# Altium footprint library SparkFun-Connectors.PCBLIB: 386 footprints (part 13 of 25)
Each footprint in its own frame and in the unit in brackets; x right, y up, seen from the top. Pads: shape width x height; smd on the part's side, far side on the other; paste and mask are expansions set on the pad; w line width, h text height; cw(c..) or ccw(c..) is an arc to the next point about the centre after c.
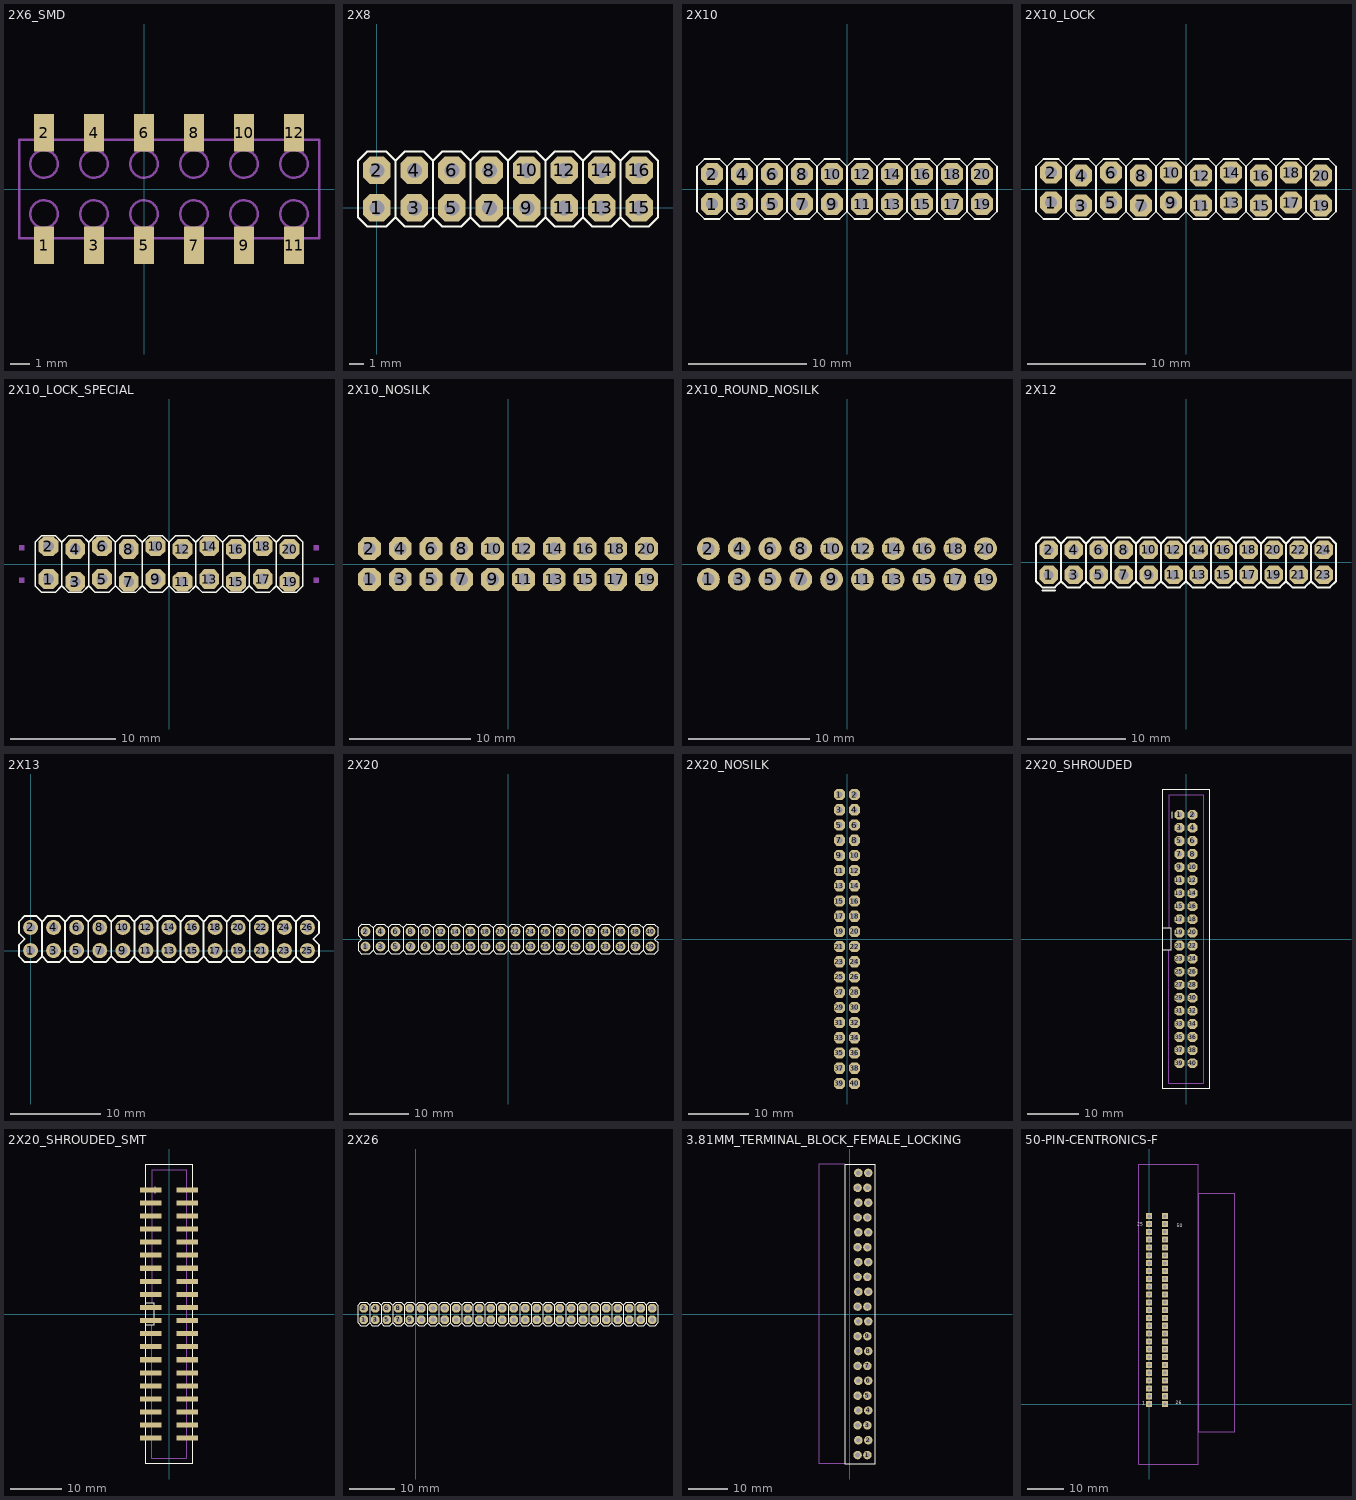
[diagram p12: the footprints below, top view; thin cyan lines are the x and y axes]

## 2X6_SMD [mil]
pads (12):
  rect 40.16x74.8 smd: 1(-200,-112.2) 2(-200,112.2) 3(-100,-112.2) 4(-100,112.2) 5(0,-112.2) 6(0,112.2) 7(100,-112.2) 8(100,112.2) 9(200,-112.2) 10(200,112.2) 11(300,-112.2) 12(300,112.2)
Mechanical 16:
  circle w5: c-100,50 r27.56
  circle w5: c-200,50 r27.56
  circle w5: c-200,-50 r27.56
  circle w5: c-100,-50 r27.56
  circle w5: c0,-50 r27.56
  circle w5: c0,50 r27.56
  circle w5: c100,-50 r27.56
  circle w5: c100,50 r27.56
  circle w5: c200,-50 r27.56
  circle w5: c200,50 r27.56
  circle w5: c300,-50 r27.56
  circle w5: c300,50 r27.56
  rectangle: -111.81,100.39 -88.19,131.89
  rectangle: -211.81,100.39 -188.19,131.89
  rectangle: -11.81,100.39 11.81,131.89
  region: -188.19,-100.39 -211.81,-100.39 -211.81,-131.89 -188.19,-131.89
  region: -88.19,-100.39 -111.81,-100.39 -111.81,-131.89 -88.19,-131.89
  region: 11.81,-100.39 -11.81,-100.39 -11.81,-131.89 11.81,-131.89
  rectangle: 88.19,100.39 111.81,131.89
  region: 111.81,-100.39 88.19,-100.39 88.19,-131.89 111.81,-131.89
  rectangle: 188.19,100.39 211.81,131.89
  region: 211.81,-100.39 188.19,-100.39 188.19,-131.89 211.81,-131.89
  rectangle: 288.19,100.39 311.81,131.89
  region: 311.81,-100.39 288.19,-100.39 288.19,-131.89 311.81,-131.89
  lines w5: -250,-98.43 -250,98.43 350,98.43 350,-98.43 -250,-98.43

## 2X8 [mil]
pads (16):
  oct 74x74 hole 40: 1(0,0) 2(0,100) 3(100,0) 4(100,100) 5(200,0) 6(200,100) 7(300,0) 8(300,100) 9(400,0) 10(400,100) 11(500,0) 12(500,100) 13(600,0) 14(600,100) 15(700,0) 16(700,100)
Top Overlay:
  lines w6: 50,-25 25,-50 -25,-50 -50,-25 -50,125 -25,150 25,150 50,125 ; 50,-25 75,-50 125,-50 150,-25 ; 50,-25 50,125 ; 50,125 75,150 125,150 150,125 ; 150,-25 175,-50 225,-50 250,-25 ; 150,-25 150,125 ; 150,125 175,150 225,150 250,125 ; 250,-25 275,-50 325,-50 350,-25 ; 250,-25 250,125 ; 250,125 275,150 325,150 350,125 ; 350,-25 375,-50 425,-50 450,-25 ; 350,-25 350,125 ; 350,125 375,150 425,150 450,125 ; 450,-25 475,-50 525,-50 550,-25 ; 450,-25 450,125 ; 450,125 475,150 525,150 550,125 ; 550,-25 575,-50 625,-50 650,-25 ; 550,-25 550,125 ; 550,125 575,150 625,150 650,125 ; 650,-25 675,-50 725,-50 750,-25 750,125 725,150 675,150 650,125 ; 650,-25 650,125
Mechanical 16:
  rectangle: -10,-10 10,10
  rectangle: -10,90 10,110
  rectangle: 90,90 110,110
  rectangle: 90,-10 110,10
  rectangle: 190,90 210,110
  rectangle: 190,-10 210,10
  rectangle: 290,90 310,110
  rectangle: 390,90 410,110
  rectangle: 490,90 510,110
  rectangle: 290,-10 310,10
  rectangle: 390,-10 410,10
  rectangle: 490,-10 510,10
  rectangle: 590,90 610,110
  rectangle: 590,-10 610,10
  rectangle: 690,90 710,110
  rectangle: 690,-10 710,10

## 2X10 [mil]
pads (20):
  oct 74x74 hole 40: 1(-450,-50) 2(-450,50) 3(-350,-50) 4(-350,50) 5(-250,-50) 6(-250,50) 7(-150,-50) 8(-150,50) 9(-50,-50) 10(-50,50) 11(50,-50) 12(50,50) 13(150,-50) 14(150,50) 15(250,-50) 16(250,50) 17(350,-50) 18(350,50) 19(450,-50) 20(450,50)
Top Overlay:
  lines w6: -400,-75 -425,-100 -475,-100 -500,-75 -500,75 -475,100 -425,100 -400,75 ; -400,-75 -375,-100 -325,-100 -300,-75 ; -400,-75 -400,75 ; -400,75 -375,100 -325,100 -300,75 ; -300,-75 -275,-100 -225,-100 -200,-75 ; -300,-75 -300,75 ; -300,75 -275,100 -225,100 -200,75 ; -200,-75 -175,-100 -125,-100 -100,-75 ; -200,-75 -200,75 ; -200,75 -175,100 -125,100 -100,75 ; -100,-75 -75,-100 -25,-100 0,-75 ; -100,-75 -100,75 ; -100,75 -75,100 -25,100 0,75 ; 0,-75 25,-100 75,-100 100,-75 ; 0,-75 0,75 ; 0,75 25,100 75,100 100,75 ; 100,-75 125,-100 175,-100 200,-75 ; 100,-75 100,75 ; 100,75 125,100 175,100 200,75 ; 200,-75 225,-100 275,-100 300,-75 ; 200,-75 200,75 ; 200,75 225,100 275,100 300,75 ; 300,-75 325,-100 375,-100 400,-75 ; 300,-75 300,75 ; 300,75 325,100 375,100 400,75 ; 400,-75 400,75 ; 400,-75 425,-100 475,-100 500,-75 500,75 475,100 425,100 400,75
Mechanical 16:
  rectangle: -460,-60 -440,-40
  rectangle: -460,40 -440,60
  rectangle: -360,40 -340,60
  rectangle: -360,-60 -340,-40
  rectangle: -260,40 -240,60
  rectangle: -260,-60 -240,-40
  rectangle: -160,40 -140,60
  rectangle: -60,40 -40,60
  rectangle: 40,40 60,60
  rectangle: -160,-60 -140,-40
  rectangle: -60,-60 -40,-40
  rectangle: 40,-60 60,-40
  rectangle: 140,40 160,60
  rectangle: 140,-60 160,-40
  rectangle: 240,40 260,60
  rectangle: 240,-60 260,-40
  rectangle: 340,40 360,60
  rectangle: 340,-60 360,-40
  rectangle: 440,40 460,60
  rectangle: 440,-60 460,-40

## 2X10_LOCK [mil]
pads (20):
  oct 74x74 hole 40: 1(-450,-45) 2(-450,55) 3(-350,-55) 4(-350,45) 5(-250,-45) 6(-250,55) 7(-150,-55) 8(-150,45) 9(-50,-45) 10(-50,55) 11(50,-55) 12(50,45) 13(150,-45) 14(150,55) 15(250,-55) 16(250,45) 17(350,-45) 18(350,55) 19(450,-55) 20(450,45)
Top Overlay:
  lines w6: -400,-75 -425,-100 -475,-100 -500,-75 -500,75 -475,100 -425,100 -400,75 ; -400,-75 -375,-100 -325,-100 -300,-75 ; -400,-75 -400,75 ; -400,75 -375,100 -325,100 -300,75 ; -300,-75 -275,-100 -225,-100 -200,-75 ; -300,-75 -300,75 ; -300,75 -275,100 -225,100 -200,75 ; -200,-75 -175,-100 -125,-100 -100,-75 ; -200,-75 -200,75 ; -200,75 -175,100 -125,100 -100,75 ; -100,-75 -75,-100 -25,-100 0,-75 ; -100,-75 -100,75 ; -100,75 -75,100 -25,100 0,75 ; 0,-75 25,-100 75,-100 100,-75 ; 0,-75 0,75 ; 0,75 25,100 75,100 100,75 ; 100,-75 125,-100 175,-100 200,-75 ; 100,-75 100,75 ; 100,75 125,100 175,100 200,75 ; 200,-75 225,-100 275,-100 300,-75 ; 200,-75 200,75 ; 200,75 225,100 275,100 300,75 ; 300,-75 325,-100 375,-100 400,-75 ; 300,-75 300,75 ; 300,75 325,100 375,100 400,75 ; 400,-75 400,75 ; 400,-75 425,-100 475,-100 500,-75 500,75 475,100 425,100 400,75
Mechanical 16:
  rectangle: -460,-60 -440,-40
  rectangle: -460,40 -440,60
  rectangle: -360,40 -340,60
  rectangle: -360,-60 -340,-40
  rectangle: -260,40 -240,60
  rectangle: -260,-60 -240,-40
  rectangle: -160,40 -140,60
  rectangle: -60,40 -40,60
  rectangle: 40,40 60,60
  rectangle: -160,-60 -140,-40
  rectangle: -60,-60 -40,-40
  rectangle: 40,-60 60,-40
  rectangle: 140,40 160,60
  rectangle: 140,-60 160,-40
  rectangle: 240,40 260,60
  rectangle: 240,-60 260,-40
  rectangle: 340,40 360,60
  rectangle: 340,-60 360,-40
  rectangle: 440,40 460,60
  rectangle: 440,-60 460,-40

## 2X10_LOCK_SPECIAL [mil]
pads (20):
  oct 74x74 hole 40: 1(-450,-56) 2(-450,66) 3(-350,-66) 4(-350,56) 5(-250,-56) 6(-250,66) 7(-150,-66) 8(-150,56) 9(-50,-56) 10(-50,66) 11(50,-66) 12(50,56) 13(150,-56) 14(150,66) 15(250,-66) 16(250,56) 17(350,-56) 18(350,66) 19(450,-66) 20(450,56)
Top Overlay:
  lines w6: -400,-81 -425,-106 -475,-106 -500,-81 -500,81 -475,106 -425,106 -400,81 ; -400,-81 -375,-106 -325,-106 -300,-81 ; -400,-81 -400,81 ; -400,81 -375,106 -325,106 -300,81 ; -300,-81 -275,-106 -225,-106 -200,-81 ; -300,-81 -300,81 ; -300,81 -275,106 -225,106 -200,81 ; -200,-81 -175,-106 -125,-106 -100,-81 ; -200,-81 -200,81 ; -200,81 -175,106 -125,106 -100,81 ; -100,-81 -75,-106 -25,-106 0,-81 ; -100,-81 -100,81 ; -100,81 -75,106 -25,106 0,81 ; 0,-81 25,-106 75,-106 100,-81 ; 0,-81 0,81 ; 0,81 25,106 75,106 100,81 ; 100,-81 125,-106 175,-106 200,-81 ; 100,-81 100,81 ; 100,81 125,106 175,106 200,81 ; 200,-81 225,-106 275,-106 300,-81 ; 200,-81 200,81 ; 200,81 225,106 275,106 300,81 ; 300,-81 325,-106 375,-106 400,-81 ; 300,-81 300,81 ; 300,81 325,106 375,106 400,81 ; 400,-81 400,81 ; 400,-81 425,-106 475,-106 500,-81 500,81 475,106 425,106 400,81
Mechanical 16:
  rectangle: -460,-71 -440,-51
  rectangle: -460,51 -440,71
  rectangle: -360,51 -340,71
  rectangle: -360,-71 -340,-51
  rectangle: -260,51 -240,71
  rectangle: -260,-71 -240,-51
  rectangle: -160,51 -140,71
  rectangle: -60,51 -40,71
  rectangle: 40,51 60,71
  rectangle: -160,-71 -140,-51
  rectangle: -60,-71 -40,-51
  rectangle: 40,-71 60,-51
  rectangle: 140,51 160,71
  rectangle: 140,-71 160,-51
  rectangle: 240,51 260,71
  rectangle: 240,-71 260,-51
  rectangle: 340,51 360,71
  rectangle: 340,-71 360,-51
  rectangle: 440,51 460,71
  rectangle: 440,-71 460,-51
  rectangle: -560,51 -540,71
  rectangle: -560,-71 -540,-51
  rectangle: 540,51 560,71
  rectangle: 540,-71 560,-51

## 2X10_NOSILK [mil]
pads (20):
  oct 74x74 hole 40: 1(-450,-50) 2(-450,50) 3(-350,-50) 4(-350,50) 5(-250,-50) 6(-250,50) 7(-150,-50) 8(-150,50) 9(-50,-50) 10(-50,50) 11(50,-50) 12(50,50) 13(150,-50) 14(150,50) 15(250,-50) 16(250,50) 17(350,-50) 18(350,50) 19(450,-50) 20(450,50)
Mechanical 16:
  rectangle: -460,-60 -440,-40
  rectangle: -460,40 -440,60
  rectangle: -360,40 -340,60
  rectangle: -360,-60 -340,-40
  rectangle: -260,40 -240,60
  rectangle: -260,-60 -240,-40
  rectangle: -160,40 -140,60
  rectangle: -60,40 -40,60
  rectangle: 40,40 60,60
  rectangle: -160,-60 -140,-40
  rectangle: -60,-60 -40,-40
  rectangle: 40,-60 60,-40
  rectangle: 140,40 160,60
  rectangle: 140,-60 160,-40
  rectangle: 240,40 260,60
  rectangle: 240,-60 260,-40
  rectangle: 340,40 360,60
  rectangle: 340,-60 360,-40
  rectangle: 440,40 460,60
  rectangle: 440,-60 460,-40

## 2X10_ROUND_NOSILK [mil]
pads (20):
  round 74 hole 40: 1(-450,-50) 2(-450,50) 3(-350,-50) 4(-350,50) 5(-250,-50) 6(-250,50) 7(-150,-50) 8(-150,50) 9(-50,-50) 10(-50,50) 11(50,-50) 12(50,50) 13(150,-50) 14(150,50) 15(250,-50) 16(250,50) 17(350,-50) 18(350,50) 19(450,-50) 20(450,50)
Mechanical 16:
  rectangle: -460,-60 -440,-40
  rectangle: -460,40 -440,60
  rectangle: -360,40 -340,60
  rectangle: -360,-60 -340,-40
  rectangle: -260,40 -240,60
  rectangle: -260,-60 -240,-40
  rectangle: -160,40 -140,60
  rectangle: -60,40 -40,60
  rectangle: 40,40 60,60
  rectangle: -160,-60 -140,-40
  rectangle: -60,-60 -40,-40
  rectangle: 40,-60 60,-40
  rectangle: 140,40 160,60
  rectangle: 140,-60 160,-40
  rectangle: 240,40 260,60
  rectangle: 240,-60 260,-40
  rectangle: 340,40 360,60
  rectangle: 340,-60 360,-40
  rectangle: 440,40 460,60
  rectangle: 440,-60 460,-40

## 2X12 [mil]
pads (24):
  oct 74x74 hole 40: 1(-550,-50) 2(-550,50) 3(-450,-50) 4(-450,50) 5(-350,-50) 6(-350,50) 7(-250,-50) 8(-250,50) 9(-150,-50) 10(-150,50) 11(-50,-50) 12(-50,50) 13(50,-50) 14(50,50) 15(150,-50) 16(150,50) 17(250,-50) 18(250,50) 19(350,-50) 20(350,50) 21(450,-50) 22(450,50) 23(550,-50) 24(550,50)
Top Overlay:
  lines w8: -575,-113.19 -525,-113.19 ; -500,-75 -525,-100 -575,-100 -600,-75 -600,75 -575,100 -525,100 -500,75 ; -500,-75 -475,-100 -425,-100 -400,-75 ; -500,-75 -500,75 ; -500,75 -475,100 -425,100 -400,75 ; -400,-75 -375,-100 -325,-100 -300,-75 ; -400,-75 -400,75 ; -400,75 -375,100 -325,100 -300,75 ; -300,-75 -300,75 ; -300,-75 -275,-100 -225,-100 -200,-75 ; -300,-75 -300,75 ; -300,75 -275,100 -225,100 -200,75 ; -200,-75 -175,-100 -125,-100 -100,-75 ; -200,-75 -200,75 ; -200,75 -175,100 -125,100 -100,75 ; -100,-75 -75,-100 -25,-100 0,-75 ; -100,-75 -100,75 ; -100,75 -75,100 -25,100 0,75 ; 0,-75 0,75 ; 0,-75 25,-100 75,-100 100,-75 ; 0,-75 0,75 ; 0,75 25,100 75,100 100,75 ; 100,-75 125,-100 175,-100 200,-75 ; 100,-75 100,75 ; 100,75 125,100 175,100 200,75 ; 200,-75 225,-100 275,-100 300,-75 ; 200,-75 200,75 ; 200,75 225,100 275,100 300,75 ; 300,-75 300,75 ; 300,-75 325,-100 375,-100 400,-75 ; 300,-75 300,75 ; 300,75 325,100 375,100 400,75 ; 400,-75 425,-100 475,-100 500,-75 ; 400,-75 400,75 ; 400,75 425,100 475,100 500,75 ; 500,-75 525,-100 575,-100 600,-75 600,75 575,100 525,100 500,75 ; 500,-75 500,75
Mechanical 16:
  rectangle: -560,-60 -540,-40
  rectangle: -560,40 -540,60
  rectangle: -460,40 -440,60
  rectangle: -460,-60 -440,-40
  rectangle: -360,40 -340,60
  rectangle: -360,-60 -340,-40
  rectangle: -260,-60 -240,-40
  rectangle: -260,40 -240,60
  rectangle: -160,40 -140,60
  rectangle: -160,-60 -140,-40
  rectangle: -60,40 -40,60
  rectangle: -60,-60 -40,-40
  rectangle: 40,-60 60,-40
  rectangle: 40,40 60,60
  rectangle: 140,40 160,60
  rectangle: 140,-60 160,-40
  rectangle: 240,40 260,60
  rectangle: 240,-60 260,-40
  rectangle: 340,-60 360,-40
  rectangle: 340,40 360,60
  rectangle: 440,40 460,60
  rectangle: 440,-60 460,-40
  rectangle: 540,40 560,60
  rectangle: 540,-60 560,-40

## 2X13 [mil]
pads (26):
  round 65 hole 40: 1(0,0) 2(0,100) 3(100,0) 4(100,100) 5(200,0) 6(200,100) 7(300,0) 8(300,100) 9(400,0) 10(400,100) 11(500,0) 12(500,100) 13(600,0) 14(600,100) 15(700,0) 16(700,100) 17(800,0) 18(800,100) 19(900,0) 20(900,100) 21(1000,0) 22(1000,100) 23(1100,0) 24(1100,100) 25(1200,0) 26(1200,100)
Top Overlay:
  lines w8: 50,-25 25,-50 -25,-50 -50,-25 -50,25 -25,50 -50,75 -50,125 -25,150 25,150 50,125 ; 50,-25 75,-50 125,-50 150,-25 ; 50,-25 50,125 ; 50,125 75,150 125,150 150,125 ; 150,-25 175,-50 225,-50 250,-25 ; 150,-25 150,125 ; 150,125 175,150 225,150 250,125 ; 250,-25 275,-50 325,-50 350,-25 ; 250,-25 250,125 ; 250,125 275,150 325,150 350,125 ; 350,-25 375,-50 425,-50 450,-25 ; 350,-25 350,125 ; 350,125 375,150 425,150 450,125 ; 450,-25 475,-50 525,-50 550,-25 ; 450,-25 450,125 ; 450,125 475,150 525,150 550,125 ; 550,-25 575,-50 625,-50 650,-25 ; 550,-25 550,125 ; 550,125 575,150 625,150 650,125 ; 650,-25 675,-50 725,-50 750,-25 ; 650,-25 650,125 ; 650,125 675,150 725,150 750,125 ; 750,-25 775,-50 825,-50 850,-25 ; 750,-25 750,125 ; 750,125 775,150 825,150 850,125 ; 850,-25 875,-50 925,-50 950,-25 ; 850,-25 850,125 ; 850,125 875,150 925,150 950,125 ; 950,-25 975,-50 1025,-50 1050,-25 ; 950,-25 950,125 ; 950,125 975,150 1025,150 1050,125 ; 1050,-25 1075,-50 1125,-50 1150,-25 ; 1050,-25 1050,125 ; 1050,125 1075,150 1125,150 1150,125 ; 1150,-25 1175,-50 1225,-50 1250,-25 1250,25 1225,50 1250,75 1250,125 1225,150 1175,150 1150,125 ; 1150,-25 1150,125
Mechanical 16:
  rectangle: 590,-10 610,10
  rectangle: 490,-10 510,10
  rectangle: 390,-10 410,10
  rectangle: 290,-10 310,10
  rectangle: 190,-10 210,10
  rectangle: 90,-10 110,10
  rectangle: -10,-10 10,10
  rectangle: 1190,-10 1210,10
  rectangle: 1090,-10 1110,10
  rectangle: 990,-10 1010,10
  rectangle: 890,-10 910,10
  rectangle: 790,-10 810,10
  rectangle: 690,-10 710,10
  region: 610,110 590,110 590,90 610,90
  region: 710,110 690,110 690,90 710,90
  region: 810,110 790,110 790,90 810,90
  region: 910,110 890,110 890,90 910,90
  region: 1010,110 990,110 990,90 1010,90
  region: 1110,110 1090,110 1090,90 1110,90
  region: 1210,110 1190,110 1190,90 1210,90
  region: 10,110 -10,110 -10,90 10,90
  region: 110,110 90,110 90,90 110,90
  region: 210,110 190,110 190,90 210,90
  region: 310,110 290,110 290,90 310,90
  region: 410,110 390,110 390,90 410,90
  region: 510,110 490,110 490,90 510,90

## 2X20 [mil]
pads (40):
  round 65 hole 40: 1(-950,-50) 2(-950,50) 3(-850,-50) 4(-850,50) 5(-750,-50) 6(-750,50) 7(-650,-50) 8(-650,50) 9(-550,-50) 10(-550,50) 11(-450,-50) 12(-450,50) 13(-350,-50) 14(-350,50) 15(-250,-50) 16(-250,50) 17(-150,-50) 18(-150,50) 19(-50,-50) 20(-50,50) 21(50,-50) 22(50,50) 23(150,-50) 24(150,50) 25(250,-50) 26(250,50) 27(350,-50) 28(350,50) 29(450,-50) 30(450,50) 31(550,-50) 32(550,50) 33(650,-50) 34(650,50) 35(750,-50) 36(750,50) 37(850,-50) 38(850,50) 39(950,-50) 40(950,50)
Top Overlay:
  lines w8: -900,-75 -925,-100 -975,-100 -1000,-75 -1000,-25 -975,0 -1000,25 -1000,75 -975,100 -925,100 -900,75 ; -900,-75 -875,-100 -825,-100 -800,-75 ; -900,-75 -900,75 ; -900,75 -875,100 -825,100 -800,75 ; -800,-75 -775,-100 -725,-100 -700,-75 ; -800,-75 -800,75 ; -800,75 -775,100 -725,100 -700,75 ; -700,-75 -675,-100 -625,-100 -600,-75 ; -700,-75 -700,75 ; -700,75 -675,100 -625,100 -600,75 ; -600,-75 -575,-100 -525,-100 -500,-75 ; -600,-75 -600,75 ; -600,75 -575,100 -525,100 -500,75 ; -500,-75 -475,-100 -425,-100 -400,-75 ; -500,-75 -500,75 ; -500,75 -475,100 -425,100 -400,75 ; -400,-75 -375,-100 -325,-100 -300,-75 ; -400,-75 -400,75 ; -400,75 -375,100 -325,100 -300,75 ; -300,-75 -275,-100 -225,-100 -200,-75 ; -300,-75 -300,75 ; -300,75 -275,100 -225,100 -200,75 ; -200,-75 -175,-100 -125,-100 -100,-75 ; -200,-75 -200,75 ; -200,75 -175,100 -125,100 -100,75 ; -100,-75 -75,-100 -25,-100 0,-75 ; -100,-75 -100,75 ; -100,75 -75,100 -25,100 0,75 ; 0,-75 25,-100 75,-100 100,-75 ; 0,-75 0,75 ; 0,75 25,100 75,100 100,75 ; 100,-75 125,-100 175,-100 200,-75 ; 100,-75 100,75 ; 100,75 125,100 175,100 200,75 ; 200,-75 225,-100 275,-100 300,-75 ; 200,-75 200,75 ; 200,75 225,100 275,100 300,75 ; 300,-75 300,75 ; 300,-75 325,-100 375,-100 400,-75 ; 300,75 325,100 375,100 400,75 ; 400,-75 400,75 ; 400,-75 425,-100 475,-100 500,-75 ; 400,75 425,100 475,100 500,75 ; 500,-75 500,75 ; 500,-75 525,-100 575,-100 600,-75 ; 500,75 525,100 575,100 600,75 ; 600,-75 600,75 ; 600,-75 625,-100 675,-100 700,-75 ; 600,75 625,100 675,100 700,75 ; 700,-75 700,75 ; 700,-75 725,-100 775,-100 800,-75 ; 700,75 725,100 775,100 800,75 ; 800,-75 800,75 ; 800,-75 825,-100 875,-100 900,-75 ; 800,75 825,100 875,100 900,75 ; 900,-75 900,75 ; 900,-75 925,-100 975,-100 1000,-75 1000,-25 975,0 1000,25 1000,75 975,100 925,100 900,75
Mechanical 16:
  rectangle: -360,-60 -340,-40
  rectangle: -460,-60 -440,-40
  rectangle: -560,-60 -540,-40
  rectangle: -660,-60 -640,-40
  rectangle: -760,-60 -740,-40
  rectangle: -860,-60 -840,-40
  rectangle: -960,-60 -940,-40
  rectangle: 240,-60 260,-40
  rectangle: 140,-60 160,-40
  rectangle: 40,-60 60,-40
  rectangle: -60,-60 -40,-40
  rectangle: -160,-60 -140,-40
  rectangle: -260,-60 -240,-40
  region: -340,60 -360,60 -360,40 -340,40
  region: -240,60 -260,60 -260,40 -240,40
  region: -140,60 -160,60 -160,40 -140,40
  region: -40,60 -60,60 -60,40 -40,40
  region: 60,60 40,60 40,40 60,40
  region: 160,60 140,60 140,40 160,40
  region: 260,60 240,60 240,40 260,40
  region: -940,60 -960,60 -960,40 -940,40
  region: -840,60 -860,60 -860,40 -840,40
  region: -740,60 -760,60 -760,40 -740,40
  region: -640,60 -660,60 -660,40 -640,40
  region: -540,60 -560,60 -560,40 -540,40
  region: -440,60 -460,60 -460,40 -440,40
  region: 360,60 340,60 340,40 360,40
  region: 460,60 440,60 440,40 460,40
  region: 560,60 540,60 540,40 560,40
  region: 660,60 640,60 640,40 660,40
  region: 760,60 740,60 740,40 760,40
  region: 860,60 840,60 840,40 860,40
  region: 960,60 940,60 940,40 960,40
  region: 360,-40 340,-40 340,-60 360,-60
  region: 460,-40 440,-40 440,-60 460,-60
  region: 560,-40 540,-40 540,-60 560,-60
  region: 660,-40 640,-40 640,-60 660,-60
  region: 760,-40 740,-40 740,-60 760,-60
  region: 860,-40 840,-40 840,-60 860,-60
  region: 960,-40 940,-40 940,-60 960,-60

## 2X20_NOSILK [mil]
pads (40):
  oct 74x74 hole 40: 1(-50,950) 2(50,950) 3(-50,850) 4(50,850) 5(-50,750) 6(50,750) 7(-50,650) 8(50,650) 9(-50,550) 10(50,550) 11(-50,450) 12(50,450) 13(-50,350) 14(50,350) 15(-50,250) 16(50,250) 17(-50,150) 18(50,150) 19(-50,50) 20(50,50) 21(-50,-50) 22(50,-50) 23(-50,-150) 24(50,-150) 25(-50,-250) 26(50,-250) 27(-50,-350) 28(50,-350) 29(-50,-450) 30(50,-450) 31(-50,-550) 32(50,-550) 33(-50,-650) 34(50,-650) 35(-50,-750) 36(50,-750) 37(-50,-850) 38(50,-850) 39(-50,-950) 40(50,-950)
Mechanical 16:
  rectangle: -60,940 -40,960
  rectangle: 40,940 60,960
  rectangle: 40,840 60,860
  rectangle: -60,840 -40,860
  rectangle: 40,740 60,760
  rectangle: -60,740 -40,760
  rectangle: 40,640 60,660
  rectangle: -60,640 -40,660
  rectangle: 40,540 60,560
  rectangle: -60,540 -40,560
  rectangle: -60,640 -40,660
  rectangle: 40,640 60,660
  rectangle: -60,440 -40,460
  rectangle: 40,440 60,460
  rectangle: 40,340 60,360
  rectangle: -60,340 -40,360
  rectangle: 40,240 60,260
  rectangle: -60,240 -40,260
  rectangle: 40,140 60,160
  rectangle: -60,140 -40,160
  rectangle: 40,40 60,60
  rectangle: -60,40 -40,60
  rectangle: -60,140 -40,160
  rectangle: 40,140 60,160
  rectangle: 40,-60 60,-40
  rectangle: -60,-60 -40,-40
  rectangle: 40,-160 60,-140
  rectangle: -60,-160 -40,-140
  rectangle: 40,-260 60,-240
  rectangle: -60,-260 -40,-240
  rectangle: -60,-160 -40,-140
  rectangle: 40,-160 60,-140
  rectangle: 40,-360 60,-340
  rectangle: 40,-460 60,-440
  rectangle: 40,-560 60,-540
  rectangle: 40,-660 60,-640
  rectangle: 40,-760 60,-740
  rectangle: 40,-860 60,-840
  rectangle: 40,-960 60,-940
  rectangle: -60,-360 -40,-340
  rectangle: -60,-460 -40,-440
  rectangle: -60,-560 -40,-540
  rectangle: -60,-660 -40,-640
  rectangle: -60,-760 -40,-740
  rectangle: -60,-860 -40,-840
  rectangle: -60,-960 -40,-940

## 2X20_SHROUDED [mil]
pads (40):
  oct 74x74 hole 40: 1(-50,950) 2(50,950) 3(-50,850) 4(50,850) 5(-50,750) 6(50,750) 7(-50,650) 8(50,650) 9(-50,550) 10(50,550) 11(-50,450) 12(50,450) 13(-50,350) 14(50,350) 15(-50,250) 16(50,250) 17(-50,150) 18(50,150) 19(-50,50) 20(50,50) 21(-50,-50) 22(50,-50) 23(-50,-150) 24(50,-150) 25(-50,-250) 26(50,-250) 27(-50,-350) 28(50,-350) 29(-50,-450) 30(50,-450) 31(-50,-550) 32(50,-550) 33(-50,-650) 34(50,-650) 35(-50,-750) 36(50,-750) 37(-50,-850) 38(50,-850) 39(-50,-950) 40(50,-950)
Top Overlay:
  lines w8: -177.17,-86.61 -118.11,-86.61 -118.11,86.61 -177.17,86.61 ; -109.25,925 -109.25,975 ; 173.23,1147.64 -177.17,1147.64 -177.17,-1147.64 177.17,-1147.64 177.17,1147.64
Mechanical 16:
  rectangle: -60,940 -40,960
  rectangle: 40,940 60,960
  rectangle: 40,840 60,860
  rectangle: -60,840 -40,860
  rectangle: 40,740 60,760
  rectangle: -60,740 -40,760
  rectangle: 40,640 60,660
  rectangle: -60,640 -40,660
  rectangle: 40,540 60,560
  rectangle: -60,540 -40,560
  rectangle: -60,640 -40,660
  rectangle: 40,640 60,660
  rectangle: -60,440 -40,460
  rectangle: 40,440 60,460
  rectangle: 40,340 60,360
  rectangle: -60,340 -40,360
  rectangle: 40,240 60,260
  rectangle: -60,240 -40,260
  rectangle: 40,140 60,160
  rectangle: -60,140 -40,160
  rectangle: 40,40 60,60
  rectangle: -60,40 -40,60
  rectangle: -60,140 -40,160
  rectangle: 40,140 60,160
  rectangle: 40,-60 60,-40
  rectangle: -60,-60 -40,-40
  rectangle: 40,-160 60,-140
  rectangle: -60,-160 -40,-140
  rectangle: 40,-260 60,-240
  rectangle: -60,-260 -40,-240
  rectangle: -60,-160 -40,-140
  rectangle: 40,-160 60,-140
  rectangle: 40,-360 60,-340
  rectangle: 40,-460 60,-440
  rectangle: 40,-560 60,-540
  rectangle: 40,-660 60,-640
  rectangle: 40,-760 60,-740
  rectangle: 40,-860 60,-840
  rectangle: 40,-960 60,-940
  rectangle: -60,-360 -40,-340
  rectangle: -60,-460 -40,-440
  rectangle: -60,-560 -40,-540
  rectangle: -60,-660 -40,-640
  rectangle: -60,-760 -40,-740
  rectangle: -60,-860 -40,-840
  rectangle: -60,-960 -40,-940
  lines w8: -133.86,-86.61 -133.86,-1104.33 133.86,-1104.33 133.86,1104.33 -133.86,1104.33 -133.86,86.61

## 2X20_SHROUDED_SMT [mil]
pads (40):
  rect 163x39 smd: 1(-140.5,950) 2(140.5,950) 3(-140.5,850) 4(140.5,850) 5(-140.5,750) 6(140.5,750) 7(-140.5,650) 8(140.5,650) 9(-140.5,550) 10(140.5,550) 11(-140.5,450) 12(140.5,450) 13(-140.5,350) 14(140.5,350) 15(-140.5,250) 16(140.5,250) 17(-140.5,150) 18(140.5,150) 19(-140.5,50) 20(140.5,50) 21(-140.5,-50) 22(140.5,-50) 23(-140.5,-150) 24(140.5,-150) 25(-140.5,-250) 26(140.5,-250) 27(-140.5,-350) 28(140.5,-350) 29(-140.5,-450) 30(140.5,-450) 31(-140.5,-550) 32(140.5,-550) 33(-140.5,-650) 34(140.5,-650) 35(-140.5,-750) 36(140.5,-750) 37(-140.5,-850) 38(140.5,-850) 39(-140.5,-950) 40(140.5,-950)
Top Overlay:
  lines w8: -177.17,-86.61 -118.11,-86.61 -118.11,86.61 -177.17,86.61 ; -109.25,925 -109.25,975 ; 173.23,1147.64 -177.17,1147.64 -177.17,-1147.64 177.17,-1147.64 177.17,1147.64
Mechanical 16:
  lines w8: -133.86,-86.61 -133.86,-1104.33 133.86,-1104.33 133.86,1104.33 -133.86,1104.33 -133.86,86.61

## 2X26 [mil]
pads (52):
  oct 74x74 hole 40: 1(-450,-50) 2(-450,50) 3(-350,-50) 4(-350,50) 5(-250,-50) 6(-250,50) 7(-150,-50) 8(-150,50) 9(-50,-50) 10(-50,50) 11(50,-50) 12(50,50) 13(150,-50) 14(150,50) 15(250,-50) 16(250,50) 17(350,-50) 18(350,50) 19(450,-50) 20(450,50) 21(550,-50) 22(550,50) 23(650,-50) 24(650,50) 25(750,-50) 26(750,50) 27(850,-50) 28(850,50) 29(950,-50) 30(950,50) 31(1050,-50) 32(1050,50) 33(1150,-50) 34(1150,50) 35(1250,-50) 36(1250,50) 37(1350,-50) 38(1350,50) 39(1450,-50) 40(1450,50) 41(1550,-50) 42(1550,50) 43(1650,-50) 44(1650,50) 45(1750,-50) 46(1750,50) 47(1850,-50) 48(1850,50) 49(1950,-50) 50(1950,50) 51(2050,-50) 52(2050,50)
Top Overlay:
  drawing of 183 lines, arcs and shapes, not listed
Mechanical 16:
  rectangle: -460,-60 -440,-40
  rectangle: -460,40 -440,60
  rectangle: -360,40 -340,60
  rectangle: -360,-60 -340,-40
  rectangle: -260,40 -240,60
  rectangle: -260,-60 -240,-40
  rectangle: -160,40 -140,60
  rectangle: -60,40 -40,60
  rectangle: 40,40 60,60
  rectangle: -160,-60 -140,-40
  rectangle: -60,-60 -40,-40
  rectangle: 40,-60 60,-40
  rectangle: 140,40 160,60
  rectangle: 140,-60 160,-40
  rectangle: 240,40 260,60
  rectangle: 240,-60 260,-40
  rectangle: 340,40 360,60
  rectangle: 340,-60 360,-40
  rectangle: 440,40 460,60
  rectangle: 440,-60 460,-40
  rectangle: 540,-60 560,-40
  rectangle: 540,40 560,60
  rectangle: 640,40 660,60
  rectangle: 640,-60 660,-40
  rectangle: 740,40 760,60
  rectangle: 740,-60 760,-40
  rectangle: 840,40 860,60
  rectangle: 940,40 960,60
  rectangle: 1040,40 1060,60
  rectangle: 840,-60 860,-40
  rectangle: 940,-60 960,-40
  rectangle: 1040,-60 1060,-40
  rectangle: 1140,40 1160,60
  rectangle: 1140,-60 1160,-40
  rectangle: 1240,40 1260,60
  rectangle: 1240,-60 1260,-40
  rectangle: 1340,40 1360,60
  rectangle: 1340,-60 1360,-40
  rectangle: 1440,40 1460,60
  rectangle: 1440,-60 1460,-40
  rectangle: 1540,40 1560,60
  rectangle: 1640,40 1660,60
  rectangle: 1540,-60 1560,-40
  rectangle: 1640,-60 1660,-40
  rectangle: 1740,40 1760,60
  rectangle: 1740,-60 1760,-40
  rectangle: 1840,40 1860,60
  rectangle: 1840,-60 1860,-40
  rectangle: 1940,40 1960,60
  rectangle: 1940,-60 1960,-40
  rectangle: 2040,40 2060,60
  rectangle: 2040,-60 2060,-40

## 3.81MM_TERMINAL_BLOCK_FEMALE_LOCKING [mil]
pads (40):
  round 86 hole 47.24: 1(178,-1424.95) 2(186,-1274.95) 3(178,-1124.95) 4(186,-974.95) 5(178,-824.95) 6(186,-674.95) 7(178,-524.95) 8(186,-374.95) 9(178,-224.95) 10(186,-74.95) 11(178,75.05) 12(186,225.05) 13(178,375.05) 14(186,525.05) 15(178,675.05) 16(186,825.05) 17(178,975.05) 18(186,1125.05) 19(178,1275.05) 20(186,1425.05) @1(78,-1424.95) @2(86,-1274.95) @3(78,-1124.95) @4(86,-974.95) @5(78,-824.95) @6(86,-674.95) @7(78,-524.95) @8(86,-374.95) @9(78,-224.95) @10(86,-74.95) @11(78,75.05) @12(86,225.05) @13(78,375.05) @14(86,525.05) @15(78,675.05) @16(86,825.05) @17(78,975.05) @18(86,1125.05) @19(78,1275.05) @20(86,1425.05)
Top Overlay:
  lines w8: -50,-1515.55 -50,1515.55 257,1515.55 257,-1515.55 -50,-1515.55
Mechanical 16:
  rectangle: 163.5,1266.55 200.5,1283.55
  rectangle: 163.5,1416.55 200.5,1433.55
  rectangle: 63.5,1266.55 100.5,1283.55
  rectangle: 63.5,1416.55 100.5,1433.55
  rectangle: 163.5,966.55 200.5,983.55
  rectangle: 163.5,1116.55 200.5,1133.55
  rectangle: 63.5,966.55 100.5,983.55
  rectangle: 63.5,1116.55 100.5,1133.55
  rectangle: 163.5,666.55 200.5,683.55
  rectangle: 163.5,816.55 200.5,833.55
  rectangle: 63.5,666.55 100.5,683.55
  rectangle: 63.5,816.55 100.5,833.55
  rectangle: 163.5,366.55 200.5,383.55
  rectangle: 163.5,516.55 200.5,533.55
  rectangle: 63.5,366.55 100.5,383.55
  rectangle: 63.5,516.55 100.5,533.55
  rectangle: 163.5,66.55 200.5,83.55
  rectangle: 163.5,216.55 200.5,233.55
  rectangle: 63.5,66.55 100.5,83.55
  rectangle: 63.5,216.55 100.5,233.55
  rectangle: 163.5,-233.45 200.5,-216.45
  rectangle: 163.5,-83.45 200.5,-66.45
  rectangle: 63.5,-233.45 100.5,-216.45
  rectangle: 63.5,-83.45 100.5,-66.45
  rectangle: 163.5,-533.45 200.5,-516.45
  rectangle: 163.5,-383.45 200.5,-366.45
  rectangle: 63.5,-533.45 100.5,-516.45
  rectangle: 63.5,-383.45 100.5,-366.45
  rectangle: 163.5,-833.45 200.5,-816.45
  rectangle: 163.5,-683.45 200.5,-666.45
  rectangle: 63.5,-833.45 100.5,-816.45
  rectangle: 63.5,-683.45 100.5,-666.45
  rectangle: 163.5,-1133.45 200.5,-1116.45
  rectangle: 163.5,-983.45 200.5,-966.45
  rectangle: 63.5,-1133.45 100.5,-1116.45
  rectangle: 63.5,-983.45 100.5,-966.45
  rectangle: 163.5,-1433.45 200.5,-1416.45
  rectangle: 163.5,-1283.45 200.5,-1266.45
  rectangle: 63.5,-1433.45 100.5,-1416.45
  rectangle: 63.5,-1283.45 100.5,-1266.45
  lines w8: -50,-1515.55 -314,-1515.55 -314,1515.55 -50,1515.55

## 50-PIN-CENTRONICS-F [mil]
pads (50):
  rect 66x66 hole 35.43: P$1(0,0) P$2(0,85) P$3(0,170) P$4(0,255) P$5(0,340) P$6(0,425) P$7(0,510) P$8(0,595) P$9(0,680) P$10(0,765) P$11(0,850) P$12(0,935) P$13(0,1020) P$14(0,1105) P$15(0,1190) P$16(0,1275) P$17(0,1360) P$18(0,1445) P$19(0,1530) P$20(0,1615) P$21(0,1700) P$22(0,1785) P$23(0,1870) P$24(0,1955) P$25(0,2040) P$26(170,0) P$27(170,85) P$28(170,170) P$29(170,255) P$30(170,340) P$31(170,425) P$32(170,510) P$33(170,595) P$34(170,680) P$35(170,765) P$36(170,850) P$37(170,935) P$38(170,1020) P$39(170,1105) P$40(170,1190) P$41(170,1275) P$42(170,1360) P$43(170,1445) P$44(170,1530) P$45(170,1615) P$46(170,1700) P$47(170,1785) P$48(170,1870) P$49(170,1955) P$50(170,2040)
Top Overlay:
  text "1" at -75,-25 h62
  text "25" at -130,1920 h62
  text "26" at 290,-20 h62
  text "50" at 300,1920 h34
Mechanical 16:
  lines w5: -111.34,-650 -111.34,2605.91 534.33,2605.91 534.33,-650 -111.34,-650 ; 536.61,-300 930.32,-300 930.32,2286.61 536.61,2286.61 536.61,-300